# Altium footprint library LaunchyRIOFootprints.PcbLib: 54 footprints (part 2 of 4)
Each footprint in its own frame and in the unit in brackets; x right, y up, seen from the top. Pads: shape width x height; smd on the part's side, far side on the other; paste and mask are expansions set on the pad; w line width, h text height; cw(c..) or ccw(c..) is an arc to the next point about the centre after c.
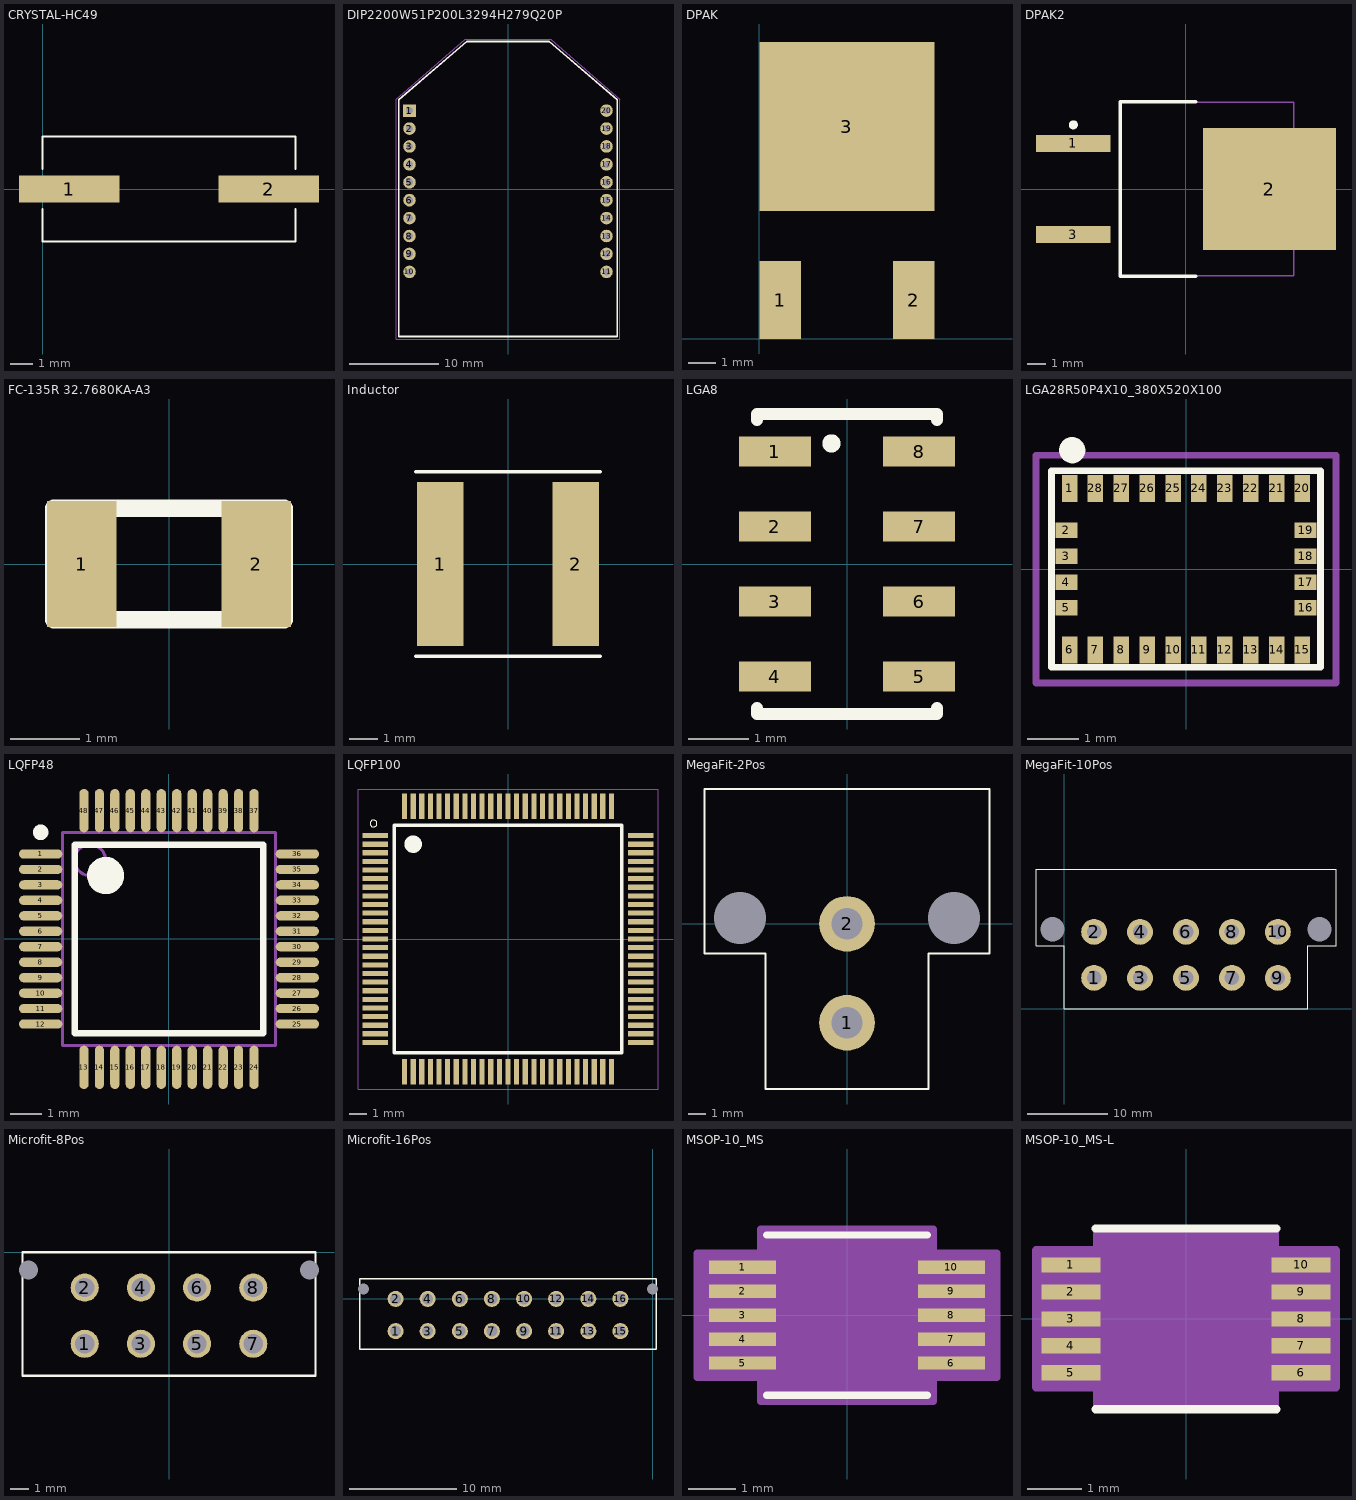
[diagram p1: the footprints below, top view; thin cyan lines are the x and y axes]

## CRYSTAL-HC49 [mm]
pads (2):
  rect 4.5x1.2 smd: 1(1.2,0) 2(10.1,0)
Top Overlay:
  lines w0.1: 0,-0.9 0,-2.35 11.3,-2.35 11.3,-0.9 ; 0,0.9 0,2.35 11.3,2.35 11.3,0.9

## DIP2200W51P200L3294H279Q20P [mm]
pads (20):
  rect 1.4x1.4 hole 0.8: 1(-11,8.75)
  round 1.4 hole 0.8: 2(-11,6.75) 3(-11,4.75) 4(-11,2.75) 5(-11,0.75) 6(-11,-1.25) 7(-11,-3.25) 8(-11,-5.25) 9(-11,-7.25) 10(-11,-9.25) 11(11,-9.25) 12(11,-7.25) 13(11,-5.25) 14(11,-3.25) 15(11,-1.25) 16(11,0.75) 17(11,2.75) 18(11,4.75) 19(11,6.75) 20(11,8.75)
Top Overlay:
  lines w0.2: -12.19,-16.47 -12.19,9.94 -4.6,16.47 4.6,16.47 12.19,9.94 12.19,-16.47 -12.19,-16.47
Mechanical 1:
  lines w0.05: -12.5,-16.75 12.5,-16.75 12.5,10 4.75,16.75 -4.75,16.75 -12.5,10 -12.5,-16.75

## DPAK [mm]
pads (3):
  rect 1.5x2.8 smd: 1(0.75,1.4) 2(5.55,1.4)
  rect 6.3x6.1 smd: 3(3.15,7.65)

## DPAK2 [mm] "D2-PAK, 3-Pads, Body 7.93x8.19mm (max), IPC Medium Density"
height 4.83
pads (3):
  rect 4.15x0.95 smd: 1(-6.25,2.54) 3(-6.25,-2.54)
  rect 7.4x6.8 smd: 2(4.65,0)
Top Overlay:
  circle w0.25: c-6.25,3.565 r0.125
  lines w0.2: 0.55,-4.85 -3.65,-4.85 -3.65,4.85 0.55,4.85
Mechanical 13:
  lines w0.1: -3.65,-4.825 6,-4.825 6,4.825 -3.65,4.825 -3.65,-4.825
3D body: height 4.83, standoff 0, extent -3.65,-4.825 6,4.825

## FC-135R 32.7680KA-A3 [mm] "CRYSTAL 32.7680KHZ 12.5PF SMT"
pads (2):
  rect 1x1.8 smd: 1(-1.25,0) 2(1.25,0)
Top Overlay:
  lines w0.254: -1.65,-0.8 -1.65,0.8 1.65,0.8 1.65,-0.8 -1.65,-0.8

## Inductor [mm] "Non-Standard package, DigiKey PN: https://www.digikey.com/product-detail/en/taiyo-yuden/NR6028T4R7M/587-2100-1-ND/1866240"
pads (2):
  rect 1.6x5.7 smd: 1(-2.35,0) 2(2.35,0)
Top Overlay:
  lines w0.127: -3.2,-3.2 3.2,-3.2 ; -3.2,3.2 3.2,3.2

## LGA8 [mm]
pads (8):
  rect 1.2x0.5 smd: 1(-1.2,1.875) 2(-1.2,0.625) 3(-1.2,-0.625) 4(-1.2,-1.875) 5(1.2,-1.875) 6(1.2,-0.625) 7(1.2,0.625) 8(1.2,1.875)
Top Overlay:
  circle w0.203: c-0.26,2.01 r0.05
  lines w0.203: -1.5,-2.4 -1.5,-2.5 1.5,-2.5 1.5,-2.4 ; -1.5,2.4 -1.5,2.5 1.5,2.5 1.5,2.4

## LGA28R50P4X10_380X520X100 [mm]
pads (28):
  rect 0.3x0.525 smd: 1(-2.25,1.562) 6(-2.25,-1.562) 7(-1.75,-1.562) 8(-1.25,-1.562) 9(-0.75,-1.562) 10(-0.25,-1.562) 11(0.25,-1.562) 12(0.75,-1.562) 13(1.25,-1.562) 14(1.75,-1.562) 15(2.25,-1.562) 20(2.25,1.562) 21(1.75,1.562) 22(1.25,1.562) 23(0.75,1.562) 24(0.25,1.562) 25(-0.25,1.562) 26(-0.75,1.562) 27(-1.25,1.562) 28(-1.75,1.562)
  rect 0.425x0.3 smd: 2(-2.312,0.75) 3(-2.312,0.25) 4(-2.312,-0.25) 5(-2.312,-0.75) 16(2.312,-0.75) 17(2.312,-0.25) 18(2.312,0.25) 19(2.312,0.75)
Top Overlay:
  circle w0.305: c-2.2,2.3 r0.1
  lines w0.127: -2.6,-1.9 -2.6,1.9 2.6,1.9 2.6,-1.9 -2.6,-1.9
Mechanical 1:
  lines w0.127: -2.9,-2.2 2.9,-2.2 2.9,2.2 -2.9,2.2 -2.9,-2.2

## LQFP48 [mm] "TSQFP, 48-Leads, Body 6.90x6.90mm, Pitch 0.50mm, IPC Medium Density"
height 1.6
pads (48):
  oval 1.4x0.3 smd: 1(-4.15,2.75) 2(-4.15,2.25) 3(-4.15,1.75) 4(-4.15,1.25) 5(-4.15,0.75) 6(-4.15,0.25) 7(-4.15,-0.25) 8(-4.15,-0.75) 9(-4.15,-1.25) 10(-4.15,-1.75) 11(-4.15,-2.25) 12(-4.15,-2.75) 25(4.15,-2.75) 26(4.15,-2.25) 27(4.15,-1.75) 28(4.15,-1.25) 29(4.15,-0.75) 30(4.15,-0.25) 31(4.15,0.25) 32(4.15,0.75) 33(4.15,1.25) 34(4.15,1.75) 35(4.15,2.25) 36(4.15,2.75)
  oval 0.3x1.4 smd: 13(-2.75,-4.15) 14(-2.25,-4.15) 15(-1.75,-4.15) 16(-1.25,-4.15) 17(-0.75,-4.15) 18(-0.25,-4.15) 19(0.25,-4.15) 20(0.75,-4.15) 21(1.25,-4.15) 22(1.75,-4.15) 23(2.25,-4.15) 24(2.75,-4.15) 37(2.75,4.15) 38(2.25,4.15) 39(1.75,4.15) 40(1.25,4.15) 41(0.75,4.15) 42(0.25,4.15) 43(-0.25,4.15) 44(-0.75,4.15) 45(-1.25,4.15) 46(-1.75,4.15) 47(-2.25,4.15) 48(-2.75,4.15)
Top Overlay:
  circle w0.25: c-4.15,3.45 r0.125
  circle w0.6: c-2.05,2.05 r0.3
  lines w0.2: -3.05,-3.05 -3.05,3.05 3.05,3.05 3.05,-3.05 -3.05,-3.05
Mechanical 13:
  circle w0.1: c-2.55,2.55 r0.5
  lines w0.1: -3.45,-3.45 -3.45,3.45 3.45,3.45 3.45,-3.45 -3.45,-3.45
3D body: height 1.6, standoff 0.05, extent -3.45,-3.45 3.45,3.45

## LQFP100 [mm]
pads (100):
  rect 1.5x0.3 smd: 1(-7.7,6) 2(-7.7,5.5) 3(-7.7,5) 4(-7.7,4.5) 5(-7.7,4) 6(-7.7,3.5) 7(-7.7,3) 8(-7.7,2.5) 9(-7.7,2) 10(-7.7,1.5) 11(-7.7,1) 12(-7.7,0.5) 13(-7.7,0) 14(-7.7,-0.5) 15(-7.7,-1) 16(-7.7,-1.5) 17(-7.7,-2) 18(-7.7,-2.5) 19(-7.7,-3) 20(-7.7,-3.5) 21(-7.7,-4) 22(-7.7,-4.5) 23(-7.7,-5) 24(-7.7,-5.5) 25(-7.7,-6) 51(7.7,-6) 52(7.7,-5.5) 53(7.7,-5) 54(7.7,-4.5) 55(7.7,-4) 56(7.7,-3.5) 57(7.7,-3) 58(7.7,-2.5) 59(7.7,-2) 60(7.7,-1.5) 61(7.7,-1) 62(7.7,-0.5) 63(7.7,0) 64(7.7,0.5) 65(7.7,1) 66(7.7,1.5) 67(7.7,2) 68(7.7,2.5) 69(7.7,3) 70(7.7,3.5) 71(7.7,4) 72(7.7,4.5) 73(7.7,5) 74(7.7,5.5) 75(7.7,6)
  rect 0.3x1.5 smd: 26(-6,-7.7) 27(-5.5,-7.7) 28(-5,-7.7) 29(-4.5,-7.7) 30(-4,-7.7) 31(-3.5,-7.7) 32(-3,-7.7) 33(-2.5,-7.7) 34(-2,-7.7) 35(-1.5,-7.7) 36(-1,-7.7) 37(-0.5,-7.7) 38(0,-7.7) 39(0.5,-7.7) 40(1,-7.7) 41(1.5,-7.7) 42(2,-7.7) 43(2.5,-7.7) 44(3,-7.7) 45(3.5,-7.7) 46(4,-7.7) 47(4.5,-7.7) 48(5,-7.7) 49(5.5,-7.7) 50(6,-7.7) 76(6,7.7) 77(5.5,7.7) 78(5,7.7) 79(4.5,7.7) 80(4,7.7) 81(3.5,7.7) 82(3,7.7) 83(2.5,7.7) 84(2,7.7) 85(1.5,7.7) 86(1,7.7) 87(0.5,7.7) 88(0,7.7) 89(-0.5,7.7) 90(-1,7.7) 91(-1.5,7.7) 92(-2,7.7) 93(-2.5,7.7) 94(-3,7.7) 95(-3.5,7.7) 96(-4,7.7) 97(-4.5,7.7) 98(-5,7.7) 99(-5.5,7.7) 100(-6,7.7)
Top Overlay:
  circle w0.3: c-5.5,5.5 r0.141
  circle w0.3: c-5.5,5.5 r0.361
  circle w0: c-7.8,6.7 r0.2
  lines w0.2: -6.6,-6.6 -6.6,6.6 6.6,6.6 6.6,-6.6 -6.6,-6.6
Mechanical 1:
  circle w0: c-5.5,5.5 r0.4
  lines w0.05: -8.7,-8.7 -8.7,8.7 8.7,8.7 8.7,-8.7 -8.7,-8.7

## MegaFit-2Pos [mm] "Molex MegaFit-2Pos"
height 14.8
pads (4):
  round 3.2 hole 1.8: 1(0,-5.7) 2(0,0)
  round 1 hole 3 unplated: NONE(-6.17,0.325) NONE(6.17,0.325)
Top Overlay:
  lines w0.127: -8.2,-1.705 -4.69,-1.705 -4.69,-9.515 4.69,-9.515 4.69,-1.705 8.2,-1.705 8.2,7.765 -8.2,7.765 -8.2,-1.705

## MegaFit-10Pos [mm] "Molex MegaFit-10Pos"
height 14.8
pads (12):
  round 3.2 hole 1.8: 1(3.69,3.815) 2(3.69,9.515) 3(9.39,3.815) 4(9.39,9.515) 5(15.09,3.815) 6(15.09,9.515) 7(20.79,3.815) 8(20.79,9.515) 9(26.49,3.815) 10(26.49,9.515)
  round 1 hole 3 unplated: NONE(-1.48,9.84) NONE(31.66,9.84)
Top Overlay:
  lines w0.127: -3.51,7.81 -3.51,17.28 33.69,17.28 33.69,7.81 30.18,7.81 30.18,0 0,0 0,7.81 -3.51,7.81

## Microfit-8Pos [mm]
height 9.91
pads (10):
  round 1.5 hole 1.02 unplated: 1(-4.5,-4.88) 2(-4.5,-1.88) 3(-1.5,-4.88) 4(-1.5,-1.88) 5(1.5,-4.88) 6(1.5,-1.88) 7(4.5,-4.88) 8(4.5,-1.88)
  round 0 hole 1.02 unplated: NONE(-7.5,-0.94) NONE(7.5,-0.94)
Top Overlay:
  lines w0.127: -7.825,-6.58 7.825,-6.58 7.825,0 0,0 -7.825,0 -7.825,-6.58

## Microfit-16Pos [mm]
height 9.91
pads (18):
  round 1.5 hole 1.02 unplated: 1(-24,-3) 2(-24,0) 3(-21,-3) 4(-21,0) 5(-18,-3) 6(-18,0) 7(-15,-3) 8(-15,0) 9(-12,-3) 10(-12,0) 11(-9,-3) 12(-9,0) 13(-6,-3) 14(-6,0) 15(-3,-3) 16(-3,0)
  round 0 hole 1.02 unplated: NONE(-27,0.94) NONE(0,0.94)
Top Overlay:
  lines w0.127: -27.325,-4.7 -27.325,1.88 -19.5,1.88 0.325,1.88 0.325,-4.7 -27.325,-4.7

## MSOP-10_MS [mil]
pads (10):
  rect 55x11 smd: 1(-86,39.4) 2(-86,19.7) 3(-86,0) 4(-86,-19.7) 5(-86,-39.4) 6(86,-39.4) 7(86,-19.7) 8(86,0) 9(86,19.7) 10(86,39.4)
Top Overlay:
  lines w6: -66,-66 66,-66 ; -66,66 66,66
Mechanical 13:
  lines w0: -12,61 ccw(c0,61) 12,61
Mechanical 15:
  region: -71,-51.25 -123.5,-51.25 -123.5,51.25 -71,51.25 -71,71 71,71 71,51.25 123.5,51.25 123.5,-51.25 71,-51.25 71,-71 -71,-71
  lines w6: -123.5,-51.25 -123.5,51.25 -71,51.25 -71,71 71,71 71,51.25 123.5,51.25 123.5,-51.25 71,-51.25 71,-71 -71,-71 -71,-51.25 -123.5,-51.25
3D body "MSOP-10_MS.stp": height 43.1, standoff 0, extent -99.5,-61 99.5,61

## MSOP-10_MS-L [mil]
pads (10):
  rect 43x11 smd: 1(-84,39.4) 2(-84,19.7) 3(-84,0) 4(-84,-19.7) 5(-84,-39.4) 6(84,-39.4) 7(84,-19.7) 8(84,0) 9(84,19.7) 10(84,39.4)
Top Overlay:
  lines w6: -66,-66 66,-66 ; -66,66 66,66
Mechanical 13:
  lines w0: -12,61 ccw(c0,61) 12,61
Mechanical 15:
  region: -65,-50.05 -109.5,-50.05 -109.5,50.05 -65,50.05 -65,65 65,65 65,50.05 109.5,50.05 109.5,-50.05 65,-50.05 65,-65 -65,-65
  lines w6: -109.5,-50.05 -109.5,50.05 -65,50.05 -65,65 65,65 65,50.05 109.5,50.05 109.5,-50.05 65,-50.05 65,-65 -65,-65 -65,-50.05 -109.5,-50.05
3D body "MSOP-10_MS-L.stp": height 43.1, standoff 0, extent -99.5,-61 99.5,61